# Altium schematic symbol library MAX213.SchLib: 1 symbol
Pins are listed as number, name and electrical type; pins without a type are passive.

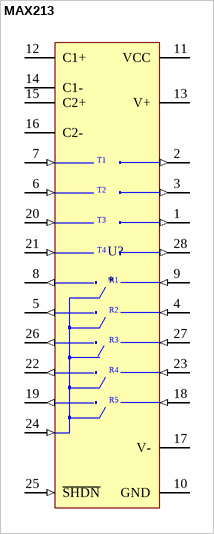
[diagram p0: symbol MAX213]

## MAX213
designator U?
5-V MULTICHANNEL RS-232 LINE DRIVER/RECEIVER; Manufacturer: Texas Instruments; Part No.: MAX213IDBR; Vendor: Digi-Key; Price Est.: $1.63
footprint SSOP24 (SSOP; 24 Leads; Body Width 5.3 mm; Pitch 0.65 mm)
pins: 1 T3OUT (out), 2 T1OUT (out), 3 T2OUT (out), 4 R2IN (in), 5 R2OUT (out), 6 T2IN (in), 7 T1IN (in), 8 R1OUT (out), 9 R1IN (in), 10 GND (power), 11 VCC (power), 12 C1+, 13 V+ (power), 14 C1-, 15 C2+, 16 C2-, 17 V- (power), 18 R5IN (in), 19 R5OUT (out), 20 T3IN (in), 21 T4IN (in), 22 R4OUT (out), 23 R4IN (in), 24 ~{EN} (in), 25 ~{SHDN} (in), 26 R3OUT (out), 27 R3IN (in), 28 T4OUT (out)
text: T1; T2; T3; T4; R1; R2; R3; R4; R5